# EAGLE library part PCA9557 (library ic-NXP)
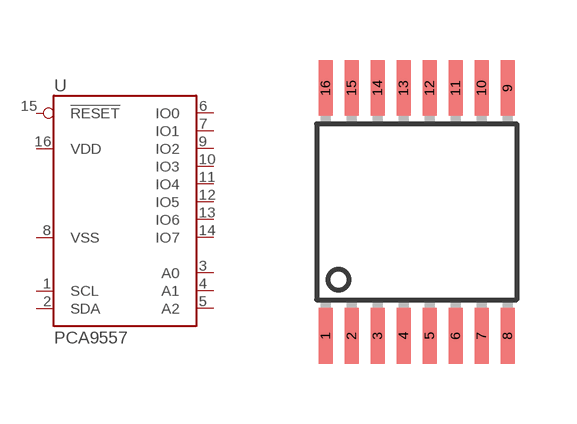
[diagram p7: symbol with the pads of TSSOP16; footprint TSSOP16]

Designator prefix U

## PCA9557PW  [TSSOP16]
1  SCL
2  SDA
3  A0
4  A1
5  A2
6  IO0
7  IO1
8  VSS
9  IO2
10  IO3
11  IO4
12  IO5
13  IO6
14  IO7
15  !RESET
16  VDD

## Footprint TSSOP16 (pad centres in mm)
smd 0.35 x 1.4: 1 -2.275,-3.1; 2 -1.625,-3.1; 3 -0.975,-3.1; 4 -0.325,-3.1; 5 0.325,-3.1; 6 0.975,-3.1; 7 1.625,-3.1; 8 2.275,-3.1; 9 2.275,3.1; 10 1.625,3.1; 11 0.975,3.1; 12 0.325,3.1; 13 -0.325,3.1; 14 -0.975,3.1; 15 -1.625,3.1; 16 -2.275,3.1